# Altium footprint library 压敏电阻.PcbLib: 2 footprints
Each footprint in its own frame and in the unit in brackets; x right, y up, seen from the top. Pads: shape width x height; smd on the part's side, far side on the other; paste and mask are expansions set on the pad; w line width, h text height; cw(c..) or ccw(c..) is an arc to the next point about the centre after c.
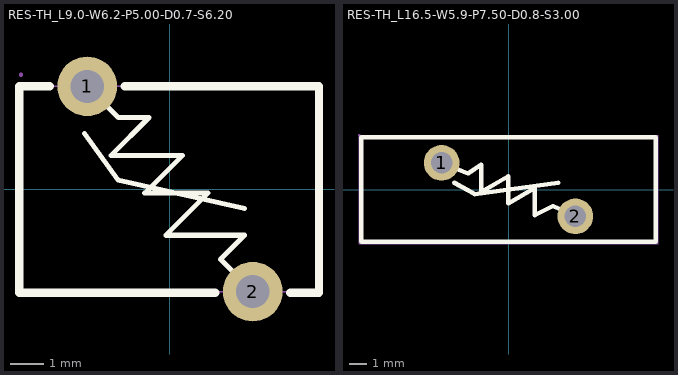
[diagram p0: the footprints below, top view; thin cyan lines are the x and y axes]

## RES-TH_L9.0-W6.2-P5.00-D0.7-S6.20 [mm]
pads (2):
  round 1.8 hole 1: 1(-2.5,3.1) 2(2.5,-3.1)
Top Overlay:
  lines w0.152: -2.578,1.678 -1.574,0.274 2.255,-0.591 ; -2.5,3.1 -1.559,2.159 -0.635,2.159 -1.778,1.016 0.381,1.016 -0.762,-0.127 1.143,-0.127 -0.127,-1.397 2.251,-1.397 1.524,-2.124 2.5,-3.1
  lines w0.254: -4.547,3.068 -4.547,-3.132 1.369,-3.132 ; -4.547,3.1 -3.631,3.1 ; -1.369,3.1 4.5,3.1 4.5,-3.1 ; 3.631,-3.132 4.5,-3.132
Mechanical 15:
  region: 2.85,-3.1 2.849,-3.031 2.794,-2.905 2.696,-2.809 2.569,-2.757 2.431,-2.757 2.304,-2.809 2.206,-2.905 2.151,-3.031 2.15,-3.1 2.151,-3.169 2.206,-3.295 2.304,-3.391 2.431,-3.443 2.569,-3.443 2.696,-3.391 2.794,-3.295 2.849,-3.169 2.85,-3.1
  region: -2.15,3.1 -2.151,3.169 -2.206,3.295 -2.304,3.391 -2.431,3.443 -2.569,3.443 -2.696,3.391 -2.794,3.295 -2.849,3.169 -2.85,3.1 -2.849,3.031 -2.794,2.905 -2.696,2.809 -2.569,2.757 -2.431,2.757 -2.304,2.809 -2.206,2.905 -2.151,3.031 -2.15,3.1
  region: -4.44,3.45 -4.44,3.475 -4.475,3.51 -4.525,3.51 -4.56,3.475 -4.56,3.45 -4.56,3.425 -4.525,3.39 -4.475,3.39 -4.44,3.425 -4.44,3.45
  lines w0.051: -4.5,-3.1 4.5,-3.1 4.5,3.1 -4.5,3.1 -4.5,-3.1
3D body "压敏电阻.step": height 9.99, standoff -5, extent -4.5,-3.592 4.5,3.592

## RES-TH_L16.5-W5.9-P7.50-D0.8-S3.00 [mm]
pads (2):
  round 2 hole 1.2: 1(-3.75,1.5) 2(3.75,-1.5)
Top Overlay:
  lines w0.254: -3.75,1.5 -2.268,0.905 -1.524,1.397 -1.524,-0.127 -0.02,0.745 -0.02,-0.779 1.483,0.093 1.483,-1.431 2.494,-0.926 3.75,-1.5 ; -3.048,0.381 -1.905,-0.254 2.794,0.381 ; -8.255,-2.921 8.255,-2.921 8.255,2.921 -8.255,2.921 -8.255,-2.921
Mechanical 15:
  region: -3.25,1.5 -3.251,1.599 -3.327,1.782 -3.468,1.922 -3.651,1.997 -3.849,1.997 -4.032,1.922 -4.173,1.782 -4.249,1.599 -4.25,1.5 -4.249,1.401 -4.173,1.218 -4.032,1.078 -3.849,1.003 -3.651,1.003 -3.468,1.078 -3.327,1.218 -3.251,1.401
  region: 4.25,-1.5 4.249,-1.401 4.173,-1.218 4.032,-1.078 3.849,-1.003 3.651,-1.003 3.468,-1.078 3.327,-1.218 3.251,-1.401 3.25,-1.5 3.251,-1.599 3.327,-1.782 3.468,-1.922 3.651,-1.997 3.849,-1.997 4.032,-1.922 4.173,-1.782 4.249,-1.599
  region: -8.322,3.048 -8.322,3.073 -8.357,3.108 -8.407,3.108 -8.442,3.073 -8.442,3.048 -8.442,3.023 -8.407,2.988 -8.357,2.988 -8.322,3.023
  lines w0.051: -8.382,-3.048 8.382,-3.048 8.382,3.048 -8.382,3.048 -8.382,-3.048
3D body "Y5ck-R1.step": height 17.5, standoff -3.5, extent -8.249,-2.95 8.249,2.95